# Altium schematic symbol library SI2343CDS-T1-GE3.SchLib: 1 symbol
Pins are listed as number, name and electrical type; pins without a type are passive.

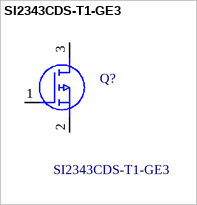
[diagram p0: symbol SI2343CDS-T1-GE3]

## SI2343CDS-T1-GE3
designator Q?
Trans MOSFET P-CH 30V 4.2A 3-Pin Vishay SI2343CDS-T1-GE3 P-channel MOSFET Transistor, 4.7 A, -30 V, 3-Pin TO-236; Geometry.Height: 1.12mm; Mouser Part Number: 781-SI2343CDS-T1-GE3; Mouser Price/Stock: https://www.mouser.co.uk/ProductDetail/Vishay-Semiconductors/SI2343CDS-T1-GE3?qs=WX95TUc1y56rXCTRPp%252BkZQ%3D%3D; Manufacturer_Name: Vishay; Manufacturer_Part_Number: SI2343CDS-T1-GE3; Datasheet Link: https://datasheet.datasheetarchive.com/originals/distributors/Datasheets-DGA23/1582493.pdf
footprint SOT95P237X112-3N
pins: 1 G, 2 S, 3 D